# EAGLE library part XTR117AIDRBT-TI (library XTR117AIDRBT-TI)
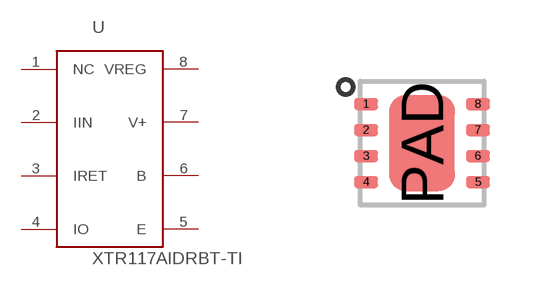
[diagram p0: symbol with the pads of 8-SON; footprint 8-SON]

Designator prefix U

## XTR117AIDRBT-TI  [8-SON]
1  NC  nc
2  IIN  pas
3  IRET  pas
4  IO  pas
5  E  pas
6  B  pas
7  V+  pas
8  VREG  pas

## Footprint 8-SON (pad centres in mm)
smd 0.6 x 0.3: 1 -1.4,0.975; 2 -1.4,0.325; 3 -1.4,-0.325; 4 -1.4,-0.975; 5 1.4,-0.975; 6 1.4,-0.325; 7 1.4,0.325; 8 1.4,0.975
smd 1.65 x 2.4: PAD 0,0